# EAGLE library part 4208 (library 4208)
Adafruit Accessories JST SH 4-pin Right Angle Connector (10-pack) - Qwiic Compatible Source: Datasheet <https://cdn-shop.adafruit.com/product-files/4208/4208_Kaweei_C13396_diagram.pdf>
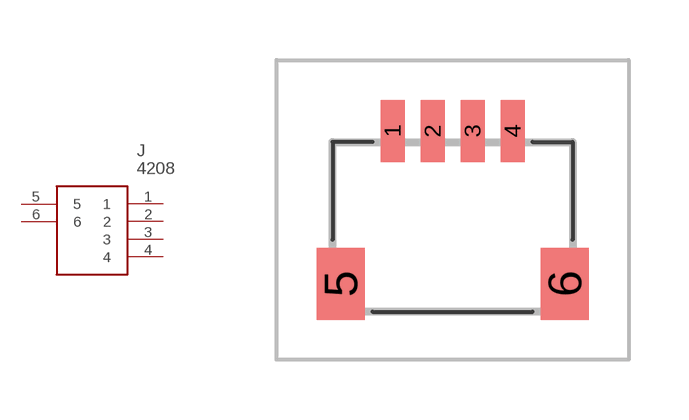
[diagram p0: symbol with the pads of 4208; footprint 4208]

Designator prefix J

## 4208 (Description: Adafruit Accessories JST SH 4-pin Right Angle Connector (10-pack) - Qwiic Compatible; Height: 3.05mm; Manufacturer_Name: Adafruit; Manufacturer_Part_Number: 4208; Mouser_Part_Number: 485-4208; Mouser_Price-Stock: https://www.mouser.co.uk/ProductDetail/Adafruit/4208?qs=PzGy0jfpSMtbScLbr0L5dw%3D%3D)  [4208]
1  1
2  2
3  3
4  4
5  5
6  6

## Footprint 4208 (pad centres in mm)
4208-2
smd 0.6 x 1.55: 1 -1.5,1.975; 2 -0.5,1.975; 3 0.5,1.975; 4 1.5,1.975
smd 1.2 x 1.8: 5 -2.8,-1.85; 6 2.8,-1.85